# Altium footprint library HVSSOP.PcbLib: 1 footprints
Each footprint in its own frame and in the unit in brackets; x right, y up, seen from the top. Pads: shape width x height; smd on the part's side, far side on the other; paste and mask are expansions set on the pad; w line width, h text height; cw(c..) or ccw(c..) is an arc to the next point about the centre after c.
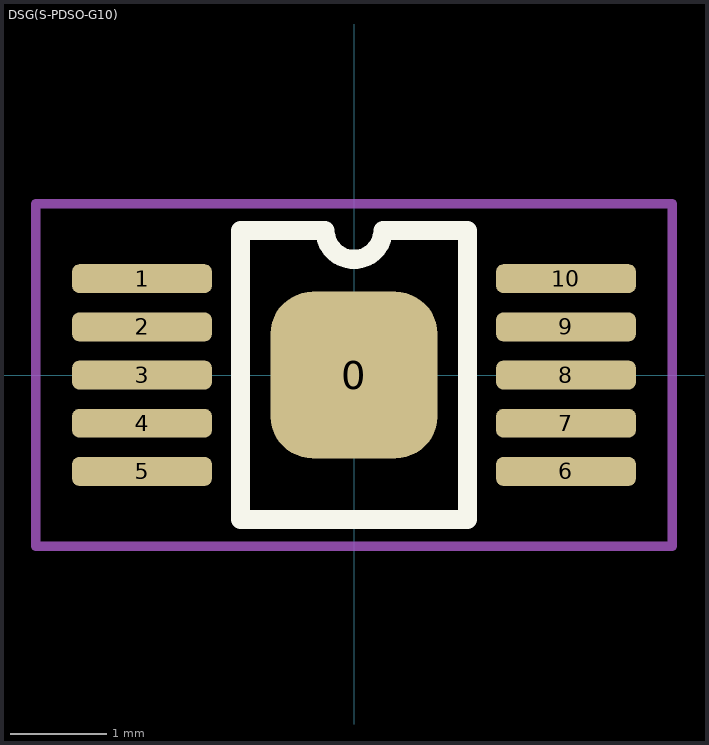
[diagram p0: the footprint, top view; thin cyan lines are the x and y axes]

## DSG(S-PDSO-G10) [mm]
pads (11):
  rrect50% 1.73x1.73 smd: 0(0,0)
  rrect50% 1.45x0.3 smd: 1(-2.2,1) 2(-2.2,0.5) 3(-2.2,0) 4(-2.2,-0.5) 5(-2.2,-1) 6(2.2,-1) 7(2.2,-0.5) 8(2.2,0) 9(2.2,0.5) 10(2.2,1)
Top Overlay:
  lines w0.2: -1.178,-1.5 -1.178,1.5 -0.3,1.5 ccw(c0,1.5) 0.3,1.5 1.178,1.5 1.178,-1.5 -1.178,-1.5
Mechanical 15:
  circle w0.1: c0,0 r0.25
  lines w0.1: -0.5,0 0.5,0 ; 0,-0.5 0,0.5 ; -3.302,-1.778 -3.302,1.778 3.302,1.778 3.302,-1.778 -3.302,-1.778
3D body "User Library-TSSOP-10.STEP": height 1.1, standoff 0, extent -2.5,-1.5 2.5,1.5